# EAGLE library part XC4003_100 (library untitled)
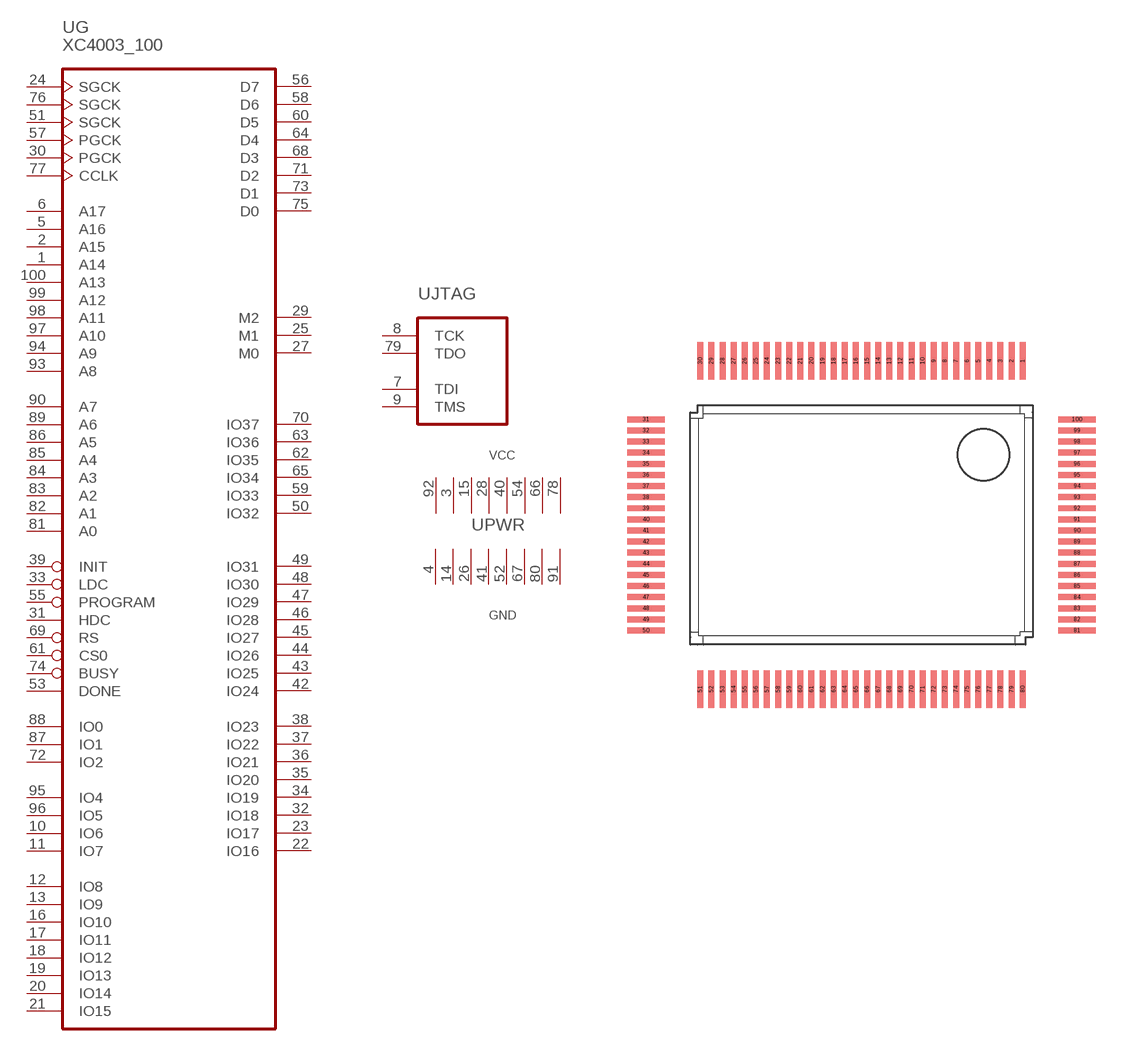
[diagram p1: symbol with the pads of PQFP100; footprint PQFP100]

Designator prefix -; gates G=XC4003E PWR=PWR JTAG=JTAG

## XC4003_100  [PQFP100]
1  G:A14
2  G:A15
3  PWR:VCC  pwr
4  PWR:GND  pwr
5  G:A16
6  G:A17
7  JTAG:TDI  in
8  JTAG:TCK  in
9  JTAG:TMS  in
10  G:IO6
11  G:IO7
12  G:IO8
13  G:IO9
14  PWR:GND  pwr
15  PWR:VCC  pwr
16  G:IO10
17  G:IO11
18  G:IO12
19  G:IO13
20  G:IO14
21  G:IO15
22  G:IO16
23  G:IO17
24  G:SGCK  in
25  G:M1  out
26  PWR:GND  pwr
27  G:M0  out
28  PWR:VCC  pwr
29  G:M2  out
30  G:PGCK
31  G:HDC  in
32  G:IO18
33  G:LDC  in
34  G:IO19
35  G:IO20
36  G:IO21
37  G:IO22
38  G:IO23
39  G:INIT  in
40  PWR:VCC  pwr
41  PWR:GND  pwr
42  G:IO24
43  G:IO25
44  G:IO26
45  G:IO27
46  G:IO28
47  G:IO29
48  G:IO30
49  G:IO31
50  G:IO32
51  G:SGCK  in
52  PWR:GND  pwr
53  G:DONE  in
54  PWR:VCC  pwr
55  G:PROGRAM  in
56  G:D7
57  G:PGCK  in
58  G:D6
59  G:IO33
60  G:D5
61  G:CS0  out
62  G:IO35
63  G:IO36
64  G:D4
65  G:IO34
66  PWR:VCC  pwr
67  PWR:GND  pwr
68  G:D3
69  G:RS  in
70  G:IO37
71  G:D2
72  G:IO2
73  G:D1
74  G:BUSY  in
75  G:D0
76  G:SGCK  in
77  G:CCLK  in
78  PWR:VCC  pwr
79  JTAG:TDO  out
80  PWR:GND  pwr
81  G:A0
82  G:A1
83  G:A2
84  G:A3
85  G:A4
86  G:A5
87  G:IO1
88  G:IO0
89  G:A6
90  G:A7
91  PWR:GND  pwr
92  PWR:VCC  pwr
93  G:A8
94  G:A9
95  G:IO4
96  G:IO5
97  G:A10
98  G:A11
99  G:A12
100  G:A13

## Footprint PQFP100 (pad centres in mm)
smd 0.35 x 2.2: 1 9.425,9.6; 2 8.775,9.6; 3 8.125,9.6; 4 7.475,9.6; 5 6.825,9.6; 6 6.175,9.6; 7 5.525,9.6; 8 4.875,9.6; 9 4.225,9.6; 10 3.575,9.6; 11 2.925,9.6; 12 2.275,9.6; 13 1.625,9.6; 14 0.975,9.6; 15 0.325,9.6; 16 -0.325,9.6; 17 -0.975,9.6; 18 -1.625,9.6; 19 -2.275,9.6; 20 -2.925,9.6; 21 -3.575,9.6; 22 -4.225,9.6; 23 -4.875,9.6; 24 -5.525,9.6; 25 -6.175,9.6; 26 -6.825,9.6; 27 -7.475,9.6; 28 -8.125,9.6; 29 -8.775,9.6; 30 -9.425,9.6; 51 -9.425,-9.6; 52 -8.775,-9.6; 53 -8.125,-9.6; 54 -7.475,-9.6; 55 -6.825,-9.6; 56 -6.175,-9.6; 57 -5.525,-9.6; 58 -4.875,-9.6; 59 -4.225,-9.6; 60 -3.575,-9.6; 61 -2.925,-9.6; 62 -2.275,-9.6; 63 -1.625,-9.6; 64 -0.975,-9.6; 65 -0.325,-9.6; 66 0.325,-9.6; 67 0.975,-9.6; 68 1.625,-9.6; 69 2.275,-9.6; 70 2.925,-9.6; 71 3.575,-9.6; 72 4.225,-9.6; 73 4.875,-9.6; 74 5.525,-9.6; 75 6.175,-9.6; 76 6.825,-9.6; 77 7.475,-9.6; 78 8.125,-9.6; 79 8.775,-9.6; 80 9.425,-9.6
smd 2.2 x 0.35: 31 -12.6,6.175; 32 -12.6,5.525; 33 -12.6,4.875; 34 -12.6,4.225; 35 -12.6,3.575; 36 -12.6,2.925; 37 -12.6,2.275; 38 -12.6,1.625; 39 -12.6,0.975; 40 -12.6,0.325; 41 -12.6,-0.325; 42 -12.6,-0.975; 43 -12.6,-1.625; 44 -12.6,-2.275; 45 -12.6,-2.925; 46 -12.6,-3.575; 47 -12.6,-4.225; 48 -12.6,-4.875; 49 -12.6,-5.525; 50 -12.6,-6.175; 81 12.6,-6.175; 82 12.6,-5.525; 83 12.6,-4.875; 84 12.6,-4.225; 85 12.6,-3.575; 86 12.6,-2.925; 87 12.6,-2.275; 88 12.6,-1.625; 89 12.6,-0.975; 90 12.6,-0.325; 91 12.6,0.325; 92 12.6,0.975; 93 12.6,1.625; 94 12.6,2.275; 95 12.6,2.925; 96 12.6,3.575; 97 12.6,4.225; 98 12.6,4.875; 99 12.6,5.525; 100 12.6,6.175